# EAGLE library part 6N137SDM (library optocoupler_ps)
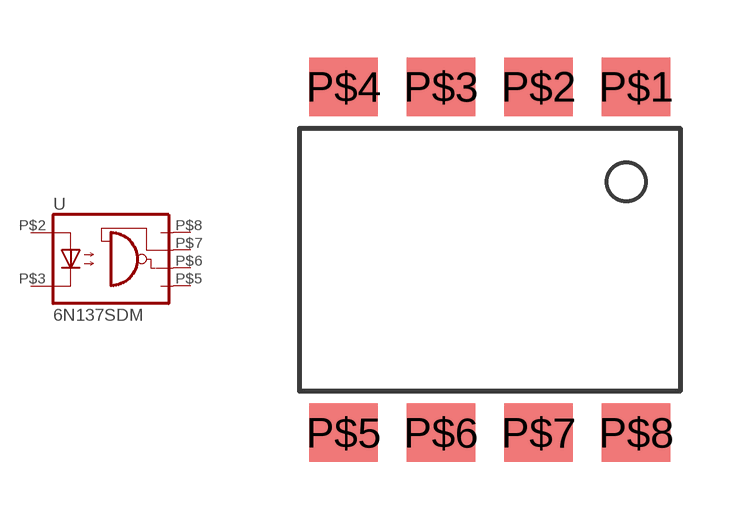
[diagram p46: symbol with the pads of 8-SMD; footprint 8-SMD]

Designator prefix -

## 6N137SDM  [8-SMD]
P$2  A  pas
P$3  C  pas
P$5  GND  pas
P$6  VO  pas
P$7  VE  pas
P$8  VCC  pas

## Footprint 8-SMD (pad centres in mm)
smd 1.778 x 1.524: P$1 3.81,4.508; P$2 1.27,4.508; P$3 -1.27,4.508; P$4 -3.81,4.508; P$5 -3.81,-4.508; P$6 -1.27,-4.508; P$7 1.27,-4.508; P$8 3.81,-4.508